# EAGLE library part ESP-07/12 (library ESP-07_12)
Version 1.0 of the library for the ESP-07/12 full GPIO dev board module byME Jon jonnyradu@gmail.com
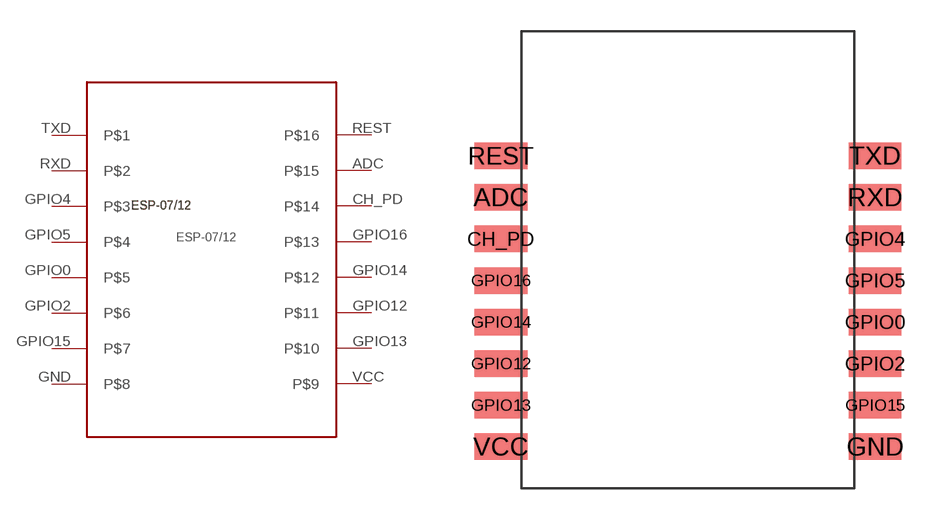
[diagram p0: symbol with the pads of ESP-07/12; footprint ESP-07/12]

Designator prefix -

## ESP-07/12  [ESP-07/12]
ADC  P$15
CH_PD  P$14
GND  P$8
GPIO0  P$5
GPIO2  P$6
GPIO4  P$3
GPIO5  P$4
GPIO12  P$11
GPIO13  P$10
GPIO14  P$12
GPIO15  P$7
GPIO16  P$13
REST  P$16
RXD  P$2
TXD  P$1
VCC  P$9

## Footprint ESP-07/12 (pad centres in mm)
smd 2.54 x 1.27: ADC -1,14; CH_PD -1,12; GND 17,2; GPIO0 17,8; GPIO2 17,6; GPIO4 17,12; GPIO5 17,10; GPIO12 -1,6; GPIO13 -1,4; GPIO14 -1,8; GPIO15 17,4; GPIO16 -1,10; REST -1,16; RXD 17,14; TXD 17,16; VCC -1,2